# EAGLE library part 6N135/6 (library GadgetFactory_v1)
HI SPEED OPTO COUPLER
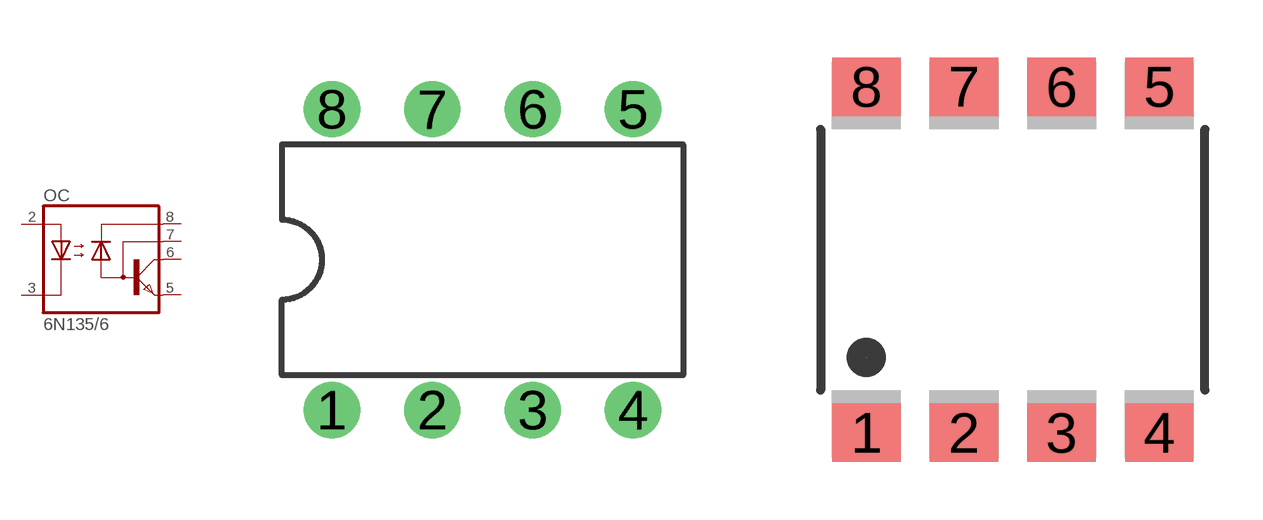
[diagram p0: symbol with the pads of DIL08; footprints DIL08, SON-OPTO]

Designator prefix OC

## 6N135/6  [DIL08]
2  A  pas
3  C  pas
5  GND  pas
6  VO  pas
7  VB  pas
8  VCC  pas

## 6N135/6SON  [SON-OPTO]
Pads as for DIL08

## 6N135/6SOW  [SOW-OPTO]
Pads as for DIL08

## Footprint DIL08 (pad centres in mm)
Dual In Line Package
drill 0.813 pad 1.422: 1 -3.81,-3.81; 2 -1.27,-3.81; 3 1.27,-3.81; 4 3.81,-3.81; 5 3.81,3.81; 6 1.27,3.81; 7 -1.27,3.81; 8 -3.81,3.81

## Footprint SON-OPTO (pad centres in mm)
smd 1.78 x 1.52: 1 -3.81,-4.505; 2 -1.27,-4.505; 3 1.27,-4.505; 4 3.81,-4.505; 5 3.81,4.505; 6 1.27,4.505; 7 -1.27,4.505; 8 -3.81,4.505

## Footprint SOW-OPTO (pad centres in mm)
smd 1.78 x 1.52: 1 -3.81,-5.74; 2 -1.27,-5.74; 3 1.27,-5.74; 4 3.81,-5.74; 5 3.81,5.74; 6 1.27,5.74; 7 -1.27,5.74; 8 -3.81,5.74